# Altium footprint library Connectors.PcbLib: 3 footprints
Each footprint in its own frame and in the unit in brackets; x right, y up, seen from the top. Pads: shape width x height; smd on the part's side, far side on the other; paste and mask are expansions set on the pad; w line width, h text height; cw(c..) or ccw(c..) is an arc to the next point about the centre after c.
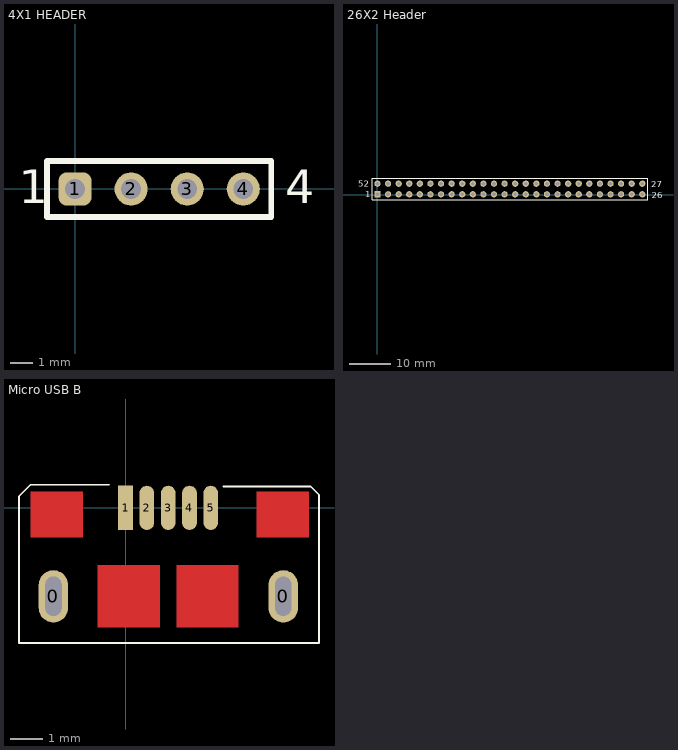
[diagram p0: the footprints below, top view; thin cyan lines are the x and y axes]

## 4X1 HEADER [mm]
pads (4):
  rrect50% 1.5x1.5 hole 0.9: 1(0,0)
  round 1.5 hole 0.9: 2(2.54,0) 3(5.08,0) 4(7.62,0)
Top Overlay:
  lines w0.254: -1.27,-1.27 8.89,-1.27 8.89,1.27 -1.27,1.27 -1.27,0 -1.27,-1.27
  text "1" at -2.54,-0.635 h1.52
  text "4" at 9.525,-0.635 h1.52

## 26X2 Header [mm]
pads (52):
  rect 1.5x1.5 hole 0.9: 1(0,0.06)
  round 1.5 hole 0.9: 2(2.54,0.06) 3(5.08,0.06) 4(7.62,0.06) 5(10.16,0.06) 6(12.7,0.06) 7(15.24,0.06) 8(17.78,0.06) 9(20.32,0.06) 10(22.86,0.06) 11(25.4,0.06) 12(27.94,0.06) 13(30.48,0.06) 14(33.02,0.06) 15(35.56,0.06) 16(38.1,0.06) 17(40.64,0.06) 18(43.18,0.06) 19(45.72,0.06) 20(48.26,0.06) 21(50.8,0.06) 22(53.34,0.06) 23(55.88,0.06) 24(58.42,0.06) 25(60.96,0.06) 26(63.5,0.06) 27(63.5,2.6) 28(60.96,2.6) 29(58.42,2.6) 30(55.88,2.6) 31(53.34,2.6) 32(50.8,2.6) 33(48.26,2.6) 34(45.72,2.6) 35(43.18,2.6) 36(40.64,2.6) 37(38.1,2.6) 38(35.56,2.6) 39(33.02,2.6) 40(30.48,2.6) 41(27.94,2.6) 42(25.4,2.6) 43(22.86,2.6) 44(20.32,2.6) 45(17.78,2.6) 46(15.24,2.6) 47(12.7,2.6) 48(10.16,2.6) 49(7.62,2.6) 50(5.08,2.6) 51(2.54,2.6) 52(0,2.6)
Top Overlay:
  lines w0.254: -1.27,-1.21 -1.27,3.87 64.81,3.87 64.81,-1.21 -1.27,-1.21
  text "1" at -2.89,-0.68 h1.52
  text "52" at -4.67,1.89 h1.52
  text "26" at 65.74,-0.87 h1.52
  text "27" at 65.65,1.79 h1.52

## Micro USB B [mm]
pads (7):
  oval 0.9x1.6 hole 0.5 slot 1.2 at 90 deg: 0(-2.2,-2.7) 0(4.81,-2.7)
  rect 0.45x1.35 smd: 1(0,0)
  oval 0.45x1.35 smd: 2(0.65,0) 3(1.3,0) 4(1.95,0) 5(2.6,0)
Top Layer:
  rectangle: -2.9,-0.9 -1.3,0.5
  rectangle: 1.55,-3.65 3.45,-1.75
  rectangle: -0.85,-3.65 1.05,-1.75
  rectangle: 4,-0.9 5.6,0.5
Top Overlay:
  lines w0.05: -3.25,-4.125 -3.25,0.35 -2.9,0.7 -0.5,0.7 ; 2.975,0.65 5.65,0.65 5.9,0.4 5.9,-4.125
  lines w0.054: -3.25,-4.125 5.9,-4.125